# Altium schematic symbol library HYT-1205.Schlib: 1 symbol
Pins are listed as number, name and electrical type; pins without a type are passive.

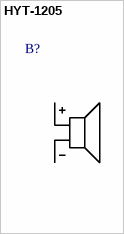
[diagram p0: symbol HYT-1205]

## HYT-1205
designator B?
Buzzer
pins: 1 +, 2 -